# Altium schematic symbol library 142-0711-821.SchLib: 2 symbols
Pins are listed as number, name and electrical type; pins without a type are passive.

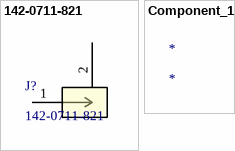
[diagram p0: symbols 142-0711-821 to Component_1]

## 142-0711-821
designator J?
No Description Available; Mfr_Name: Cinch Connectivity Solutions; Copyright: Copyright (C) 2022 Ultra Librarian. All rights reserved.; Manufacturer_Part_Number: 142-0711-821; RefDes: RefDes; Type: DEV
footprint CONN_142-0711-821_CIN
pins: 1, 2

## Component_1
designator *